# EAGLE library part LM61495Q5RPHRQ1 (library LM61495Q5RPHRQ1)
10-A automotive buck converter optimized for power density and low EMI Source: Datasheet <https://www.ti.com/lit/ds/symlink/lm61495-q1.pdf?utm_campaign=myTI-newsletter-2021-04-06.html&utm_content=LM61495-Q1_newproduct_04_05_2021&utm_medium=email&utm_source=Eloqua&ts=1617703610128>
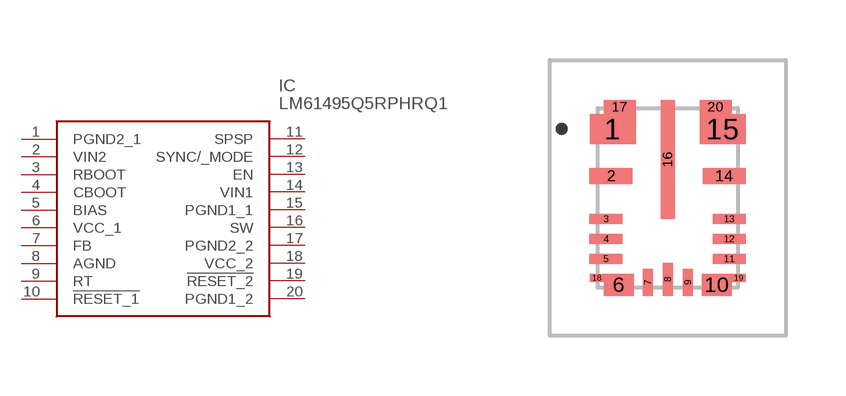
[diagram p0: symbol with the pads of LM61495Q5RPHRQ1; footprint LM61495Q5RPHRQ1]

Designator prefix IC

## LM61495Q5RPHRQ1 (Description: 10-A automotive buck converter optimized for power density and low EMI; Height: 1mm; Manufacturer_Name: Texas Instruments; Manufacturer_Part_Number: LM61495Q5RPHRQ1; Mouser_Part_Number: 595-LM61495Q5RPHRQ1; Mouser_Price-Stock: https://www.mouser.co.uk/ProductDetail/Texas-Instruments/LM61495Q5RPHRQ1?qs=iLbezkQI%252Bsg%252BjFWzFFwvSw%3D%3D)  [LM61495Q5RPHRQ1]
1  PGND2_1
2  VIN2
3  RBOOT
4  CBOOT
5  BIAS
6  VCC_1
7  FB
8  AGND
9  RT
10  !RESET_1
11  SPSP
12  SYNC/_MODE
13  EN
14  VIN1
15  PGND1_1
16  SW
17  PGND2_2
18  VCC_2
19  !RESET_2
20  PGND1_2

## Footprint LM61495Q5RPHRQ1 (pad centres in mm)
RPH0016A_2021
smd 1.15 x 0.75: 1 -1.375,1.725; 15 1.375,1.725
smd 1.075 x 0.4: 2 -1.413,0.55; 14 1.413,0.55
smd 0.825 x 0.25: 3 -1.538,-0.525; 4 -1.538,-1.025; 5 -1.538,-1.525; 11 1.538,-1.525; 12 1.538,-1.025; 13 1.538,-0.525
smd 0.75 x 0.55: 6 -1.225,-2.175; 10 1.225,-2.175
smd 0.25 x 0.675: 7 -0.5,-2.113; 9 0.5,-2.113
smd 0.25 x 0.825: 8 0,-2.038
smd 0.35 x 2.975: 16 0,0.963
smd 0.8 x 0.35: 17 -1.2,2.275; 20 1.2,2.275
smd 0.35 x 0.2: 18 -1.775,-2; 19 1.775,-2